# Altium schematic symbol library raffer_altiumlib.SchLib: 12 symbols
Pins are listed as number, name and electrical type; pins without a type are passive.

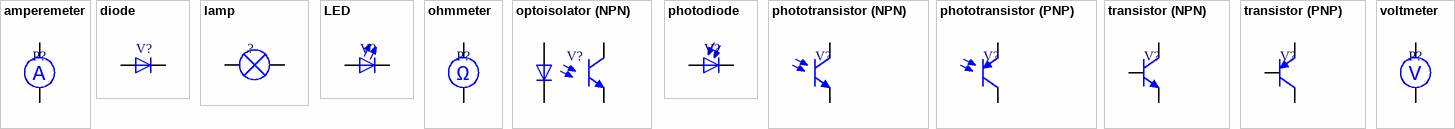
[diagram p0: symbols amperemeter to voltmeter]

## amperemeter
designator P?  (value not drawn)
pins: 1, 2
1 alternate drawing of the same symbol
text: A

## diode
designator V?  (value not drawn)
pins: 1 A, 2 K
2 alternate drawings of the same symbol

## lamp
designator ?  (value not drawn)
pins: 1, 2

## LED
designator V?  (value not drawn)
pins: 1 A, 2 K
2 alternate drawings of the same symbol

## ohmmeter
designator P?  (value not drawn)
pins: 1, 2
1 alternate drawing of the same symbol
text: Ω

## optoisolator (NPN)
designator V?  (value not drawn)
pins: 1 A, 2 K, 3 E, 4 C
2 alternate drawings of the same symbol

## photodiode
designator V?  (value not drawn)
pins: 1 A, 2 K
2 alternate drawings of the same symbol

## phototransistor (NPN)
designator V?  (value not drawn)
pins: 1 C, 3 E

## phototransistor (PNP)
designator V?  (value not drawn)
pins: 1 C, 3 E

## transistor (NPN)
designator V?  (value not drawn)
pins: 1 C, 2 B, 3 E

## transistor (PNP)
designator V?  (value not drawn)
pins: 1 C, 2 B, 3 E

## voltmeter
designator P?  (value not drawn)
pins: 1, 2
1 alternate drawing of the same symbol
text: V